# EAGLE library part STM32F2_LQFP144 (library Mine)
STM32F2_LQFP144 edit this description Auto generated by make-symbol-device-package-bsdl.ulp Rev. 43 Source: STM32F2_LQFP144.bsd
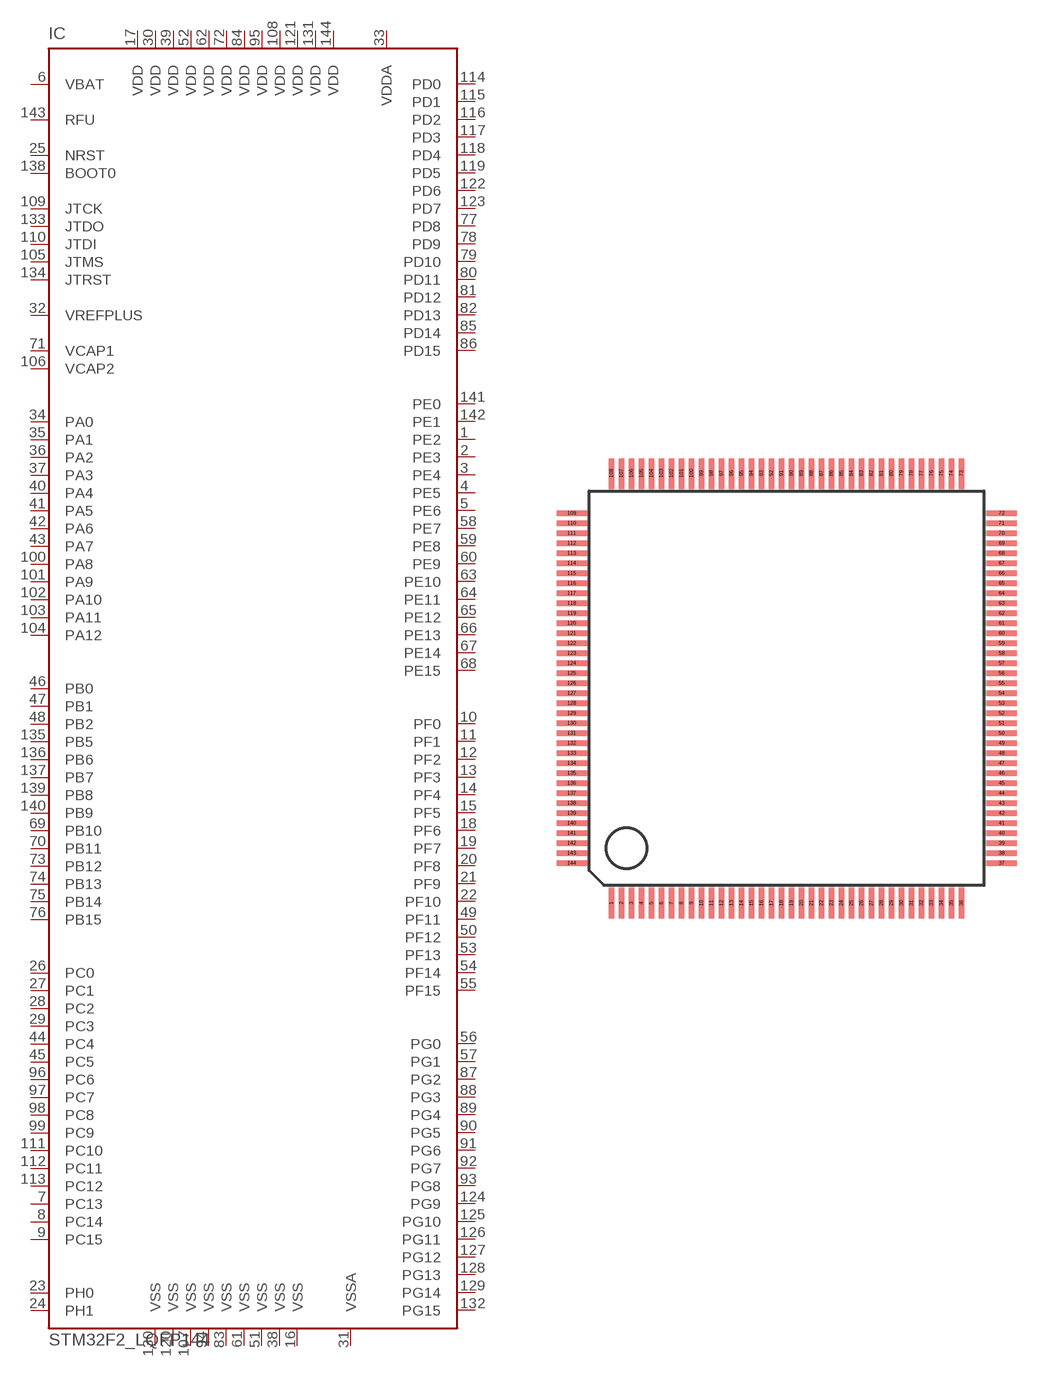
[diagram p69: symbol with the pads of TQFP144; footprint TQFP144]

Designator prefix IC

## STM32F2_LQFP144  [TQFP144]
1  PE2
2  PE3
3  PE4
4  PE5
5  PE6
6  VBAT  pas
7  PC13
8  PC14
9  PC15
10  PF0
11  PF1
12  PF2
13  PF3
14  PF4
15  PF5
16  VSS  pwr
17  VDD  pwr
18  PF6
19  PF7
20  PF8
21  PF9
22  PF10
23  PH0
24  PH1
25  NRST  in
26  PC0
27  PC1
28  PC2
29  PC3
30  VDD  pwr
31  VSSA  pwr
32  VREFPLUS  pas
33  VDDA  pwr
34  PA0
35  PA1
36  PA2
37  PA3
38  VSS  pwr
39  VDD  pwr
40  PA4
41  PA5
42  PA6
43  PA7
44  PC4
45  PC5
46  PB0
47  PB1
48  PB2
49  PF11
50  PF12
51  VSS  pwr
52  VDD  pwr
53  PF13
54  PF14
55  PF15
56  PG0
57  PG1
58  PE7
59  PE8
60  PE9
61  VSS  pwr
62  VDD  pwr
63  PE10
64  PE11
65  PE12
66  PE13
67  PE14
68  PE15
69  PB10
70  PB11
71  VCAP1  pas
72  VDD  pwr
73  PB12
74  PB13
75  PB14
76  PB15
77  PD8
78  PD9
79  PD10
80  PD11
81  PD12
82  PD13
83  VSS  pwr
84  VDD  pwr
85  PD14
86  PD15
87  PG2
88  PG3
89  PG4
90  PG5
91  PG6
92  PG7
93  PG8
94  VSS  pwr
95  VDD  pwr
96  PC6
97  PC7
98  PC8
99  PC9
100  PA8
101  PA9
102  PA10
103  PA11
104  PA12
105  JTMS  in
106  VCAP2  pas
107  VSS  pwr
108  VDD  pwr
109  JTCK  in
110  JTDI  in
111  PC10
112  PC11
113  PC12
114  PD0
115  PD1
116  PD2
117  PD3
118  PD4
119  PD5
120  VSS  pwr
121  VDD  pwr
122  PD6
123  PD7
124  PG9
125  PG10
126  PG11
127  PG12
128  PG13
129  PG14
130  VSS  pwr
131  VDD  pwr
132  PG15
133  JTDO  out
134  JTRST  in
135  PB5
136  PB6
137  PB7
138  BOOT0  in
139  PB8
140  PB9
141  PE0
142  PE1
143  RFU  pas
144  VDD  pwr

## Footprint TQFP144 (pad centres in mm)
Thin Quad Flat Pack
smd 0.27 x 1.5: 1 -8.75,-10.75; 2 -8.25,-10.75; 3 -7.75,-10.75; 4 -7.25,-10.75; 5 -6.75,-10.75; 6 -6.25,-10.75; 7 -5.75,-10.75; 8 -5.25,-10.75; 9 -4.75,-10.75; 10 -4.25,-10.75; 11 -3.75,-10.75; 12 -3.25,-10.75; 13 -2.75,-10.75; 14 -2.25,-10.75; 15 -1.75,-10.75; 16 -1.25,-10.75; 17 -0.75,-10.75; 18 -0.25,-10.75; 19 0.25,-10.75; 20 0.75,-10.75; 21 1.25,-10.75; 22 1.75,-10.75; 23 2.25,-10.75; 24 2.75,-10.75; 25 3.25,-10.75; 26 3.75,-10.75; 27 4.25,-10.75; 28 4.75,-10.75; 29 5.25,-10.75; 30 5.75,-10.75; 31 6.25,-10.75; 32 6.75,-10.75; 33 7.25,-10.75; 34 7.75,-10.75; 35 8.25,-10.75; 36 8.75,-10.75; 73 8.75,10.75; 74 8.25,10.75; 75 7.75,10.75; 76 7.25,10.75; 77 6.75,10.75; 78 6.25,10.75; 79 5.75,10.75; 80 5.25,10.75; 81 4.75,10.75; 82 4.25,10.75; 83 3.75,10.75; 84 3.25,10.75; 85 2.75,10.75; 86 2.25,10.75; 87 1.75,10.75; 88 1.25,10.75; 89 0.75,10.75; 90 0.25,10.75; 91 -0.25,10.75; 92 -0.75,10.75; 93 -1.25,10.75; 94 -1.75,10.75; 95 -2.25,10.75; 96 -2.75,10.75; 97 -3.25,10.75; 98 -3.75,10.75; 99 -4.25,10.75; 100 -4.75,10.75; 101 -5.25,10.75; 102 -5.75,10.75; 103 -6.25,10.75; 104 -6.75,10.75; 105 -7.25,10.75; 106 -7.75,10.75; 107 -8.25,10.75; 108 -8.75,10.75
smd 1.5 x 0.27: 37 10.75,-8.75; 38 10.75,-8.25; 39 10.75,-7.75; 40 10.75,-7.25; 41 10.75,-6.75; 42 10.75,-6.25; 43 10.75,-5.75; 44 10.75,-5.25; 45 10.75,-4.75; 46 10.75,-4.25; 47 10.75,-3.75; 48 10.75,-3.25; 49 10.75,-2.75; 50 10.75,-2.25; 51 10.75,-1.75; 52 10.75,-1.25; 53 10.75,-0.75; 54 10.75,-0.25; 55 10.75,0.25; 56 10.75,0.75; 57 10.75,1.25; 58 10.75,1.75; 59 10.75,2.25; 60 10.75,2.75; 61 10.75,3.25; 62 10.75,3.75; 63 10.75,4.25; 64 10.75,4.75; 65 10.75,5.25; 66 10.75,5.75; 67 10.75,6.25; 68 10.75,6.75; 69 10.75,7.25; 70 10.75,7.75; 71 10.75,8.25; 72 10.75,8.75; 109 -10.75,8.75; 110 -10.75,8.25; 111 -10.75,7.75; 112 -10.75,7.25; 113 -10.75,6.75; 114 -10.75,6.25; 115 -10.75,5.75; 116 -10.75,5.25; 117 -10.75,4.75; 118 -10.75,4.25; 119 -10.75,3.75; 120 -10.75,3.25; 121 -10.75,2.75; 122 -10.75,2.25; 123 -10.75,1.75; 124 -10.75,1.25; 125 -10.75,0.75; 126 -10.75,0.25; 127 -10.75,-0.25; 128 -10.75,-0.75; 129 -10.75,-1.25; 130 -10.75,-1.75; 131 -10.75,-2.25; 132 -10.75,-2.75; 133 -10.75,-3.25; 134 -10.75,-3.75; 135 -10.75,-4.25; 136 -10.75,-4.75; 137 -10.75,-5.25; 138 -10.75,-5.75; 139 -10.75,-6.25; 140 -10.75,-6.75; 141 -10.75,-7.25; 142 -10.75,-7.75; 143 -10.75,-8.25; 144 -10.75,-8.75